# Altium schematic symbol library Diode_Laser.SchLib: 5 symbols
Pins are listed as number, name and electrical type; pins without a type are passive.

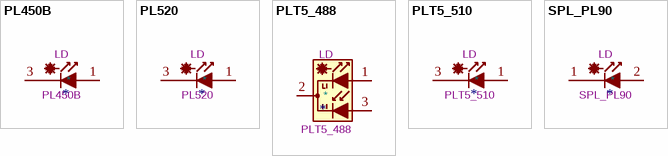
[diagram p0: symbols PL450B to SPL_PL90]

## PL450B
designator *  value PL450B  Reference: LD
ki_keywords: opto laserdiode; ki_description: Blue Laser Diode (450nm), TO-38; ki_fp_filters: LaserDiode*TO38ICut*; Footprint: OptoDevice:LaserDiode_TO38ICut-3; Datasheet: http://www.osram-os.com/Graphics/XPic5/00193831_0.pdf/PL%20450B.pdf
pins: 1 A, 2 NC hidden, 3 C

## PL520
designator *  value PL520  Reference: LD
ki_keywords: opto laserdiode; ki_description: Green Laser Diode (520nm), TO-38; ki_fp_filters: LaserDiode*TO38ICut*; Footprint: OptoDevice:LaserDiode_TO38ICut-3; Datasheet: http://www.osram-os.com/Graphics/XPic7/00234693_0.pdf/PL%20520.pdf
pins: 1 A, 2 NC hidden, 3 C

## PLT5_488
designator *  value PLT5_488  Reference: LD
ki_keywords: opto laserdiode; ki_description: Cyan Laser Diode (488nm), TO-56; ki_fp_filters: LaserDiode*TO56*; Footprint: OptoDevice:LaserDiode_TO56-3; Datasheet: http://www.osram-os.com/Graphics/XPic6/00206440_0.pdf/PLT5%20488.pdf
pins: 1, 2, 3

## PLT5_510
designator *  value PLT5_510  Reference: LD
ki_keywords: opto laserdiode; ki_description: Green Laser Diode (510nm), TO-38; ki_fp_filters: LaserDiode*TO38ICut*; Footprint: OptoDevice:LaserDiode_TO38ICut-3; Datasheet: http://www.osram-os.com/Graphics/XPic2/00227065_0.pdf/PLT5%20510.pdf
pins: 1 A, 2 NC hidden, 3 C

## SPL_PL90
designator *  value SPL_PL90  Reference: LD
ki_keywords: opto laserdiode; ki_description: Pulsed Laser Diode in Plastic Package 25W Peak Power; ki_fp_filters: LED*5.0mm*; Footprint: LED_THT:LED_D5.0mm; Datasheet: http://www.osram-os.com/Graphics/XPic0/00194565_0.pdf/SPL%20PL90.pdf
pins: 1 C, 2 A